# EAGLE library part 74HC595 (library CanCubeSat)
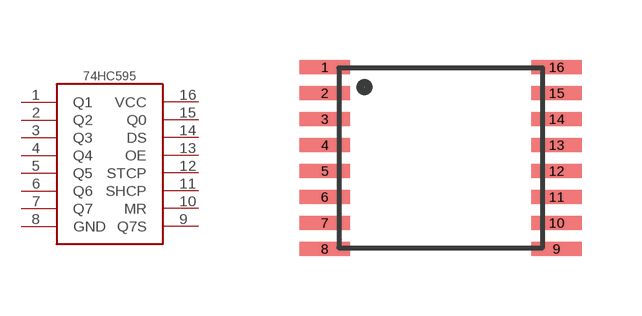
[diagram p10: symbol with the pads of TSSOP16; footprint TSSOP16]

Designator prefix -

## 74HC595  [TSSOP16]
1  Q1
2  Q2
3  Q3
4  Q4
5  Q5
6  Q6
7  Q7
8  GND
9  Q7S
10  MR
11  SHCP
12  STCP
13  OE
14  DS
15  Q0
16  VCC

## Footprint TSSOP16 (pad centres in mm)
smd 1.26 x 0.36: 1 -2.9,2.275; 2 -2.9,1.625; 3 -2.9,0.975; 4 -2.9,0.325; 5 -2.9,-0.325; 6 -2.9,-0.975; 7 -2.9,-1.625; 8 -2.9,-2.275; 9 2.9,-2.275; 10 2.9,-1.625; 11 2.9,-0.975; 12 2.9,-0.325; 13 2.9,0.325; 14 2.9,0.975; 15 2.9,1.625; 16 2.9,2.275